# Altium integrated library switches.IntLib: 3 symbols
Pins are listed as number, name and electrical type; pins without a type are passive.

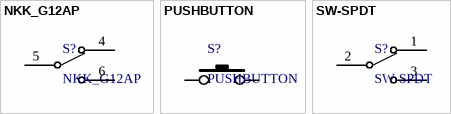
[diagram p0: symbols NKK_G12AP to SW-SPDT]

## NKK_G12AP
designator S?
footprint G12AP
pins: 4, 5, 6

## PUSHBUTTON
designator S?
footprint KMR421NGLFS
footprint THT_PUSHBUTTON
footprint NKK_AB11AP-FA
pins: 1, 2

## SW-SPDT
designator S?
footprint A12AP-PCB-CUTOUT
footprint A12AP-THT
pins: 1, 2, 3